# EAGLE library part 05_PINHEAD_1X8 (library femtoduino)
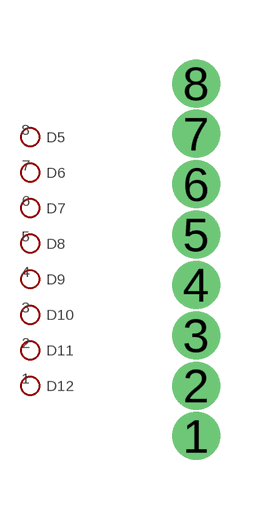
[diagram p2: symbol with the pads of 05_PINHEAD_1X8_PACKAGE; footprint 05_PINHEAD_1X8_PACKAGE]

Designator prefix -

## 05_PINHEAD_1X8  [05_PINHEAD_1X8_PACKAGE]
1  D12
2  D11
3  D10
4  D9
5  D8
6  D7
7  D6
8  D5

## Footprint 05_PINHEAD_1X8_PACKAGE (pad centres in mm)
drill 0.7 pad 1.016: 1 0,0; 2 0,1.27; 3 0,2.54; 4 0,3.81; 5 0,5.08; 6 0,6.35; 7 0,7.62; 8 0,8.89